# EAGLE library part ADC-CHIP (library dosenet-pihat)
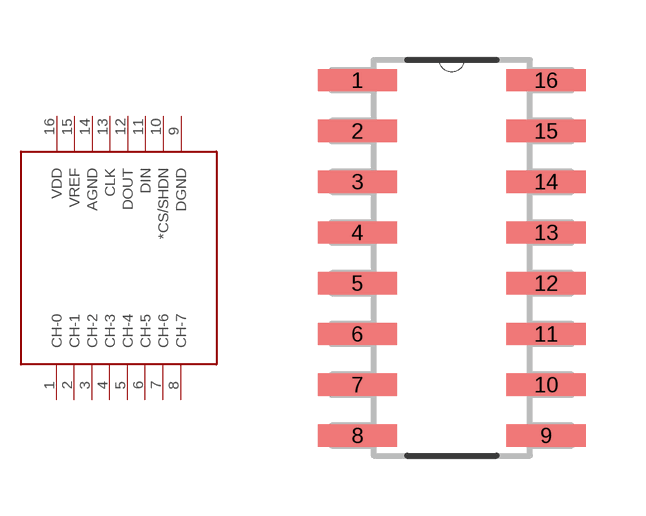
[diagram p0: symbol with the pads of MCP3008-I/SL; footprint MCP3008-I/SL]

Designator prefix -

## ADC-CHIP  [MCP3008-I/SL]
1  CH-0
2  CH-1
3  CH-2
4  CH-3
5  CH-4
6  CH-5
7  CH-6
8  CH-7
9  DGND
10  *CS/SHDN
11  DIN
12  DOUT
13  CLK
14  AGND
15  VREF
16  VDD

## Footprint MCP3008-I/SL (pad centres in mm)
smd 1.981 x 0.559: 1 -2.362,4.445; 2 -2.362,3.175; 3 -2.362,1.905; 4 -2.362,0.635; 5 -2.362,-0.635; 6 -2.362,-1.905; 7 -2.362,-3.175; 8 -2.362,-4.445; 9 2.362,-4.445; 10 2.362,-3.175; 11 2.362,-1.905; 12 2.362,-0.635; 13 2.362,0.635; 14 2.362,1.905; 15 2.362,3.175; 16 2.362,4.445